# Altium schematic symbol library C0805C274K1RACTU.SchLib: 1 symbol
Pins are listed as number, name and electrical type; pins without a type are passive.

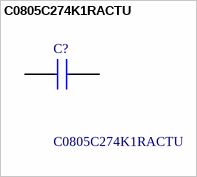
[diagram p0: symbol C0805C274K1RACTU]

## C0805C274K1RACTU
designator C?
Multilayer Ceramic Capacitors MLCC - SMD/SMT 100V 0.27uF X7R 0805 10% Temp Stable; Manufacturer_Name: KEMET; Geometry.Height: 1.4mm; Manufacturer_Part_Number: C0805C274K1RACTU; Mouser Part Number: 80-C0805C274K1RACTU; Mouser Price/Stock: https://www.mouser.co.uk/ProductDetail/KEMET/C0805C274K1RACTU?qs=wT7LY0lnAe2hDy7V5z73eA%3D%3D; Arrow Part Number: *; Arrow Price/Stock: *; Datasheet Link: https://search.kemet.com/component-documentation/download/specsheet/C0805C274K1RACTU
footprint CAPC2012X140N
pins: 1, 2